# Altium integrated library Opto.IntLib: 11 symbols
Pins are listed as number, name and electrical type; pins without a type are passive.

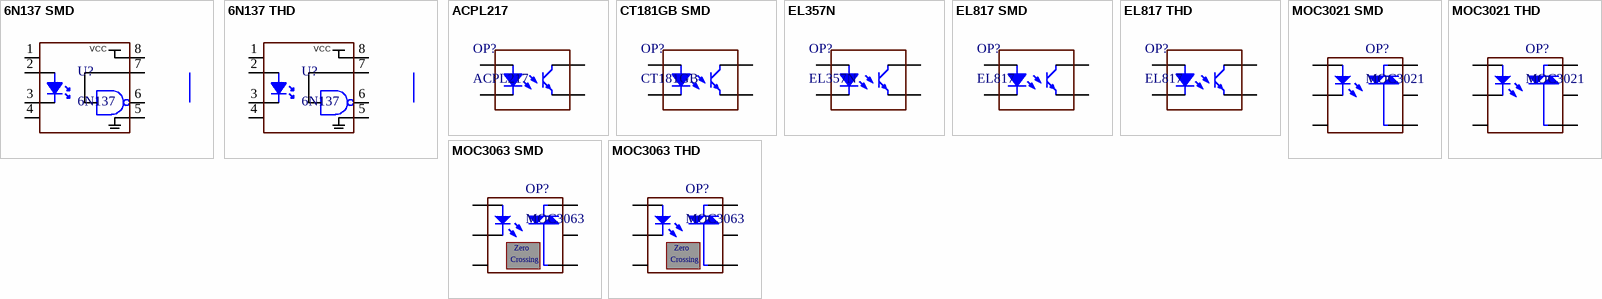
[diagram p0: symbols 6N137 SMD to MOC3063 THD]

## 6N137 SMD
designator U?, comment 6N137
SMD Opto, LOGIC GATE, 10 MBit/s; PartNumber: 6N137S-TA1
footprint DIP-8 SMD (DIP8 SMD Package)
pins: 1 NC, 2 A, 3 K, 4 NC, 5 GND, 6 VO, 7 VE, 8 VCC

## 6N137 THD
designator U?, comment 6N137
THD Opto, LOGIC GATE, 10 MBit/s; PartNumber: 6N137M
footprint DIP-8
footprint DIP-8 KIT
pins: 1 NC, 2 A, 3 K, 4 NC, 5 GND, 6 VO, 7 VE, 8 VCC

## ACPL217
designator OP?
SMD Opto Transistor; PartNumber: ACPL-217-500E
footprint SOP-4 2.8X4.7MM P1.27MM (Pitch 1.27mm)
pins: 1, 2, 3, 4

## CT181GB SMD
designator OP?, comment CT181GB
SMD Opto Transistor; PartNumber: CT181GB
footprint SOP-4 3.85X4.4MM P2.54MM (SOP, 4-Leads, Body 3.85x4.4mm, Pitch 2.54mm, IPC Medium Density)
pins: 1, 2, 3, 4

## EL357N
designator OP?
SMD Opto Transistor; PartNumber: EL357N(C)(TA)-VG
footprint SOP-4 4.3X4.5MM P2.54MM
pins: 1, 2, 3, 4

## EL817 SMD
designator OP?, comment EL817
SMD Opto Transistor; PartNumber: EL817(A)-G
footprint SOP-4 4.6X6.5MM P2.54MM (SOP, 4-Leads, Body 4.60x6.50mm, Pitch 2.54mm, IPC Medium Density)
pins: 1, 2, 3, 4

## EL817 THD
designator OP?, comment EL817
THD Opto Transistor; PartNumber: EL817S1(A)(TU)-V
footprint DIP-4 (BRIDGE DIODE, DIP, pitch 2.54mm, 300mil Width)
pins: 1, 2, 3, 4

## MOC3021 SMD
designator OP?, comment MOC3021
SMD Opto Triac; PartNumber: MOC3021SR2M
footprint DIP-6 SMD (DIP SMD, pitch 2.54mm, 300mil Width)
pins: 1, 2, 3, 4, 5, 6

## MOC3021 THD
designator OP?, comment MOC3021
THD Opto Triac; PartNumber: MOC3021M
footprint DIP-6 (DIP, pitch 2.54mm, 300mil Width)
pins: 1, 2, 3, 4, 5, 6

## MOC3063 SMD
designator OP?, comment MOC3063
SMD Opto Triac with Zero Crossing; PartNumber: MOC3063SR2M
footprint DIP-6 SMD (DIP SMD, pitch 2.54mm, 300mil Width)
pins: 1, 2, 3, 4, 5, 6
text: Zero; Crossing

## MOC3063 THD
designator OP?, comment MOC3063
THD Opto Triac with Zero Crossing; PartNumber: MOC3063M
footprint DIP-6 (DIP, pitch 2.54mm, 300mil Width)
pins: 1, 2, 3, 4, 5, 6
text: Zero; Crossing